# Altium schematic symbol library AltiumDesigner.SchLib: 2 symbols
Pins are listed as number, name and electrical type; pins without a type are passive.

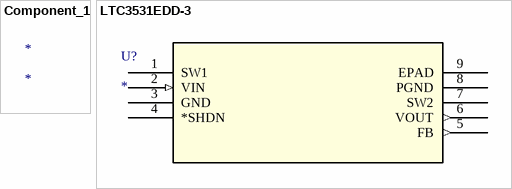
[diagram p0: symbols Component_1 to LTC3531EDD-3]

## Component_1
designator *

## LTC3531EDD-3
designator U?
Imported; Manufacturer_Part_Number: ltc3531edd-3; Vendor: Linear Technology; RefDes: RefDes; Type: DEV; Value: Value
footprint DFN-8_DD
pins: 1 SW1, 2 VIN (in), 3 GND (power), 4 *SHDN, 5 FB (out), 6 VOUT (out), 7 SW2, 8 PGND (power), 9 EPAD